# Altium footprint library DRV8825PWP.PcbLib: 1 footprints
Each footprint in its own frame and in the unit in brackets; x right, y up, seen from the top. Pads: shape width x height; smd on the part's side, far side on the other; paste and mask are expansions set on the pad; w line width, h text height; cw(c..) or ccw(c..) is an arc to the next point about the centre after c.
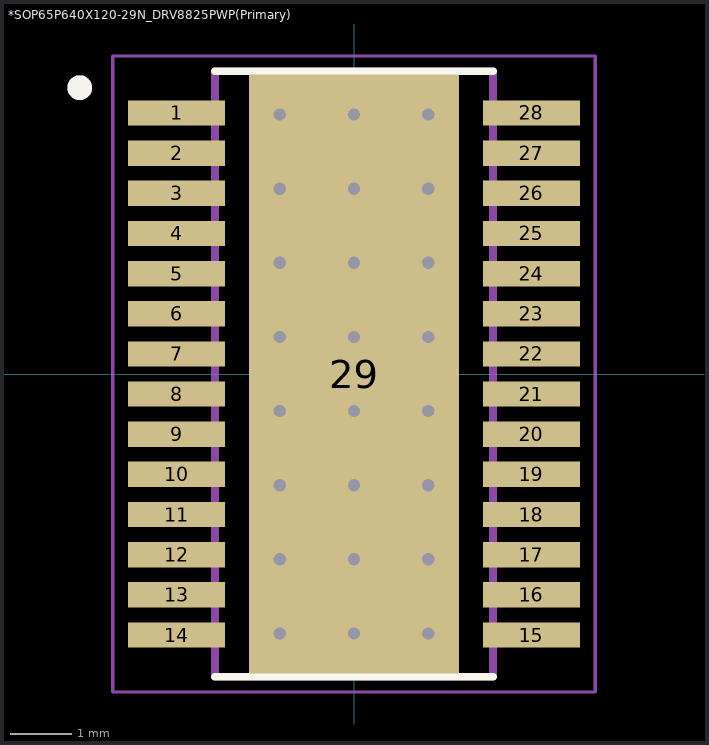
[diagram p0: the footprint, top view; thin cyan lines are the x and y axes]

## *SOP65P640X120-29N_DRV8825PWP(Primary) [mm]
pads (53):
  rect 1.57x0.41 smd: 1(-2.87,4.225) 2(-2.87,3.575) 3(-2.87,2.925) 4(-2.87,2.275) 5(-2.87,1.625) 6(-2.87,0.975) 7(-2.87,0.325) 8(-2.87,-0.325) 9(-2.87,-0.975) 10(-2.87,-1.625) 11(-2.87,-2.275) 12(-2.87,-2.925) 13(-2.87,-3.575) 14(-2.87,-4.225) 15(2.87,-4.225) 16(2.87,-3.575) 17(2.87,-2.925) 18(2.87,-2.275) 19(2.87,-1.625) 20(2.87,-0.975) 21(2.87,-0.325) 22(2.87,0.325) 23(2.87,0.975) 24(2.87,1.625) 25(2.87,2.275) 26(2.87,2.925) 27(2.87,3.575) 28(2.87,4.225)
  rect 3.4x9.7 smd: 29(0,0)
  round 0 hole 0.2: P1(-1.2,0.6) P2(0,0.6) P3(1.2,0.6) P4(-1.2,-0.6) P5(0,-0.6) P6(1.2,-0.6) P7(-1.2,-1.8) P8(0,-1.8) P9(1.2,-1.8) P10(-1.2,-3) P11(0,-3) P12(1.2,-3) P13(-1.2,-4.2) P14(0,-4.2) P15(1.2,-4.2) P16(-1.2,1.8) P17(0,1.8) P18(1.2,1.8) P19(-1.2,3) P20(0,3) P21(1.2,3) P22(-1.2,4.2) P23(0,4.2) P24(1.2,4.2)
Top Overlay:
  circle w0.2: c-4.44,4.635 r0.1
  lines w0.127: -2.25,-4.9 2.25,-4.9 ; -2.25,4.9 2.25,4.9
Top Paste:
  region: -0.775,1.295 0.775,1.295 0.775,-1.295 -0.775,-1.295
Top Solder:
  region: -1.55,2.59 1.55,2.59 1.55,-2.59 -1.55,-2.59
Mechanical 4:
  circle w0.2: c-4.44,4.635 r0.1
  circle w0.2: c-4.44,4.635 r0.1
  lines w0.127: -2.25,-4.9 2.25,-4.9 ; -2.25,-4.9 -2.25,4.9 ; -2.25,-4.9 2.25,-4.9 ; -2.25,-4.9 -2.25,4.9 ; -2.25,4.9 2.25,4.9 ; -2.25,4.9 2.25,4.9 ; 2.25,-4.9 2.25,4.9 ; 2.25,-4.9 2.25,4.9
Courtyard Bottom:
  lines w0.05: -3.905,-5.15 3.905,-5.15 3.905,5.15 -3.905,5.15 -3.905,-5.15